# EAGLE library part SG12864I (library Disp)
Digitron SG12864I Graphic LCD
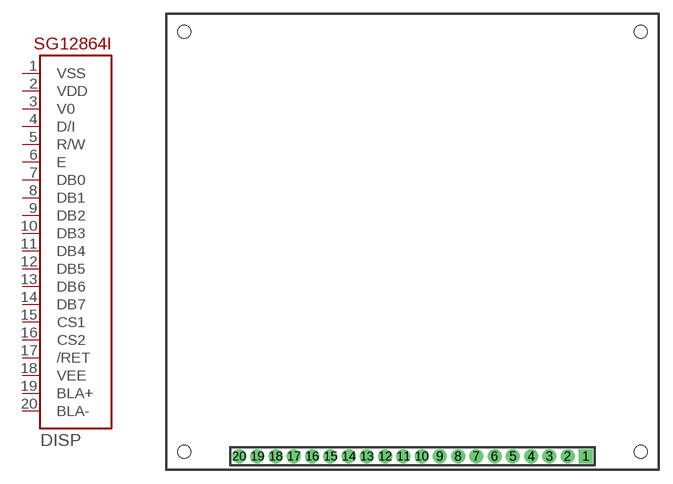
[diagram p10: symbol with the pads of SG12864I; footprint SG12864I]

Designator prefix DISP

## SG12864I  [SG12864I]
1  VSS  pwr
2  VDD  pwr
3  V0  pwr
4  D/I
5  R/W
6  E
7  DB0
8  DB1
9  DB2
10  DB3
11  DB4
12  DB5
13  DB6
14  DB7
15  CS1
16  CS2
17  /RET
18  VEE  pwr
19  BLA+  pwr
20  BLA-  pwr

## Footprint SG12864I (pad centres in mm)
Digitron SG12864I package
drill 1.016 square: 1 19,-23.5
drill 1.016 round: 2 17,-23.5; 3 15,-23.5; 4 13,-23.5; 5 11,-23.5; 6 9,-23.5; 7 7,-23.5; 8 5,-23.5; 9 3,-23.5; 10 1,-23.5; 11 -1,-23.5; 12 -3,-23.5; 13 -5,-23.5; 14 -7,-23.5; 15 -9,-23.5; 16 -11,-23.5; 17 -13,-23.5; 18 -15,-23.5; 19 -17,-23.5; 20 -19,-23.5
hole 1.422 at -25,23
hole 1.422 at -25,-23
hole 1.422 at 25,-23
hole 1.422 at 25,23